# EAGLE library part UG-2828GDEDF11-1.5OLED (library arducorder-mini)
OLED display, 1.5", 128x128, 16bpp. Model #ER-OLED015 or UG-2828GDEDF11
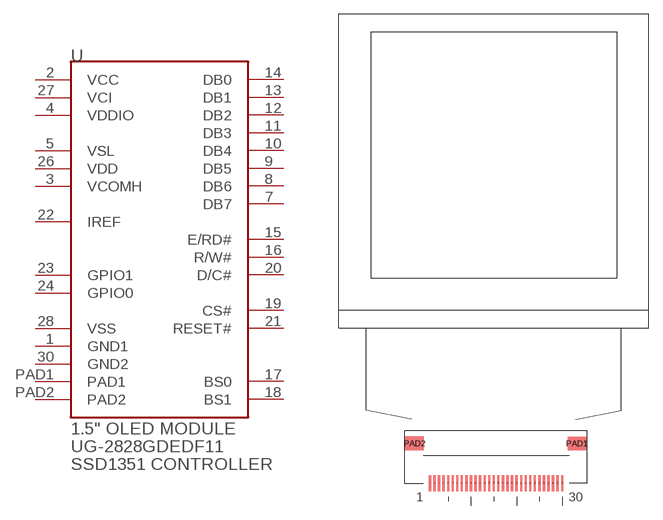
[diagram p0: symbol with the pads of XF2M-3015-1A-1.5LCD; footprint XF2M-3015-1A-1.5LCD]

Designator prefix -

## UG-2828GDEDF11-1.5OLED  [XF2M-3015-1A-1.5LCD]
1  GND1
2  VCC
3  VCOMH
4  VDDIO
5  VSL
7  DB7
8  DB6
9  DB5
10  DB4
11  DB3
12  DB2
13  DB1
14  DB0
15  E/RD#
16  R/W#
17  BS0
18  BS1
19  CS#
20  D/C#
21  RESET#
22  IREF
23  GPIO1
24  GPIO0
26  VDD
27  VCI
28  VSS
30  GND2
PAD1  PAD1
PAD2  PAD2

## Footprint XF2M-3015-1A-1.5LCD (pad centres in mm)
smd 0.25 x 1.75: 1 -7,-3.02; 2 -6.5,-3.02; 3 -6,-3.02; 4 -5.5,-3.02; 5 -5,-3.02; 6 -4.5,-3.02; 7 -4,-3.02; 8 -3.5,-3.02; 9 -3,-3.02; 10 -2.5,-3.02; 11 -2,-3.02; 12 -1.5,-3.02; 13 -1,-3.02; 14 -0.5,-3.02; 15 0,-3.02; 16 0.5,-3.02; 17 1,-3.02; 18 1.5,-3.02; 19 2,-3.02; 20 2.5,-3.02; 21 3,-3.02; 22 3.5,-3.02; 23 4,-3.02; 24 4.5,-3.02; 25 5,-3.02; 26 5.5,-3.02; 27 6,-3.02; 28 6.5,-3.02; 29 7,-3.02; 30 7.5,-3.02
smd 2 x 1.5: PAD1 9.11,1.34; PAD2 -8.68,1.35